# EAGLE library part MPU-6500 (library MPU-6500)
Accelerometer, Gyroscope, 6 Axis Sensor I²C, SPI Output Check availability <https://pricing.snapeda.com/parts/MPU-6500/TDK%20InvenSense/view-part?ref=eda>
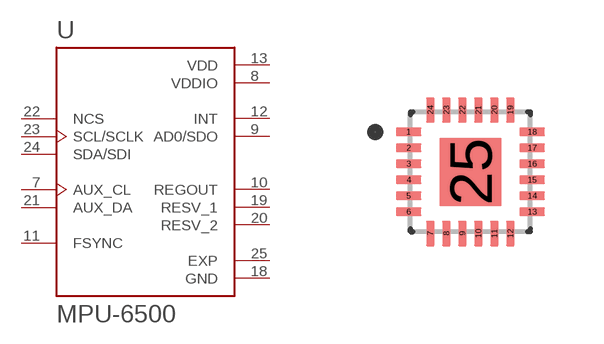
[diagram p0: symbol with the pads of QFN40P300X300X95-25N; footprint QFN40P300X300X95-25N]

Designator prefix U

## MPU-6500 (Availability: In Stock; Description: Accelerometer, Gyroscope, 6 Axis Sensor I²C, SPI Output; MF: TDK InvenSense; MP: MPU-6500; Package: None; Price: None; Purchase-URL: https://pricing.snapeda.com/search/part/MPU-6500/?ref=eda)  [QFN40P300X300X95-25N]
7  AUX_CL  in
8  VDDIO  pwr
9  AD0/SDO  out
10  REGOUT  out
11  FSYNC  in
12  INT  out
13  VDD  pwr
18  GND  pwr
19  RESV_1  pas
20  RESV_2  pas
21  AUX_DA
22  NCS  in
23  SCL/SCLK  in
24  SDA/SDI
25  EXP  pas

## Footprint QFN40P300X300X95-25N (pad centres in mm)
smd 0.64 x 0.22: 1 -1.545,1; 2 -1.545,0.6; 3 -1.545,0.2; 4 -1.545,-0.2; 5 -1.545,-0.6; 6 -1.545,-1; 13 1.545,-1; 14 1.545,-0.6; 15 1.545,-0.2; 16 1.545,0.2; 17 1.545,0.6; 18 1.545,1
smd 0.22 x 0.64: 7 -1,-1.545; 8 -0.6,-1.545; 9 -0.2,-1.545; 10 0.2,-1.545; 11 0.6,-1.545; 12 1,-1.545; 19 1,1.545; 20 0.6,1.545; 21 0.2,1.545; 22 -0.2,1.545; 23 -0.6,1.545; 24 -1,1.545
smd 1.54 x 1.7: 25 0,0